# Altium schematic symbol library SCH - IC-MCU - ATTINY85V-10SU.SchLib: 1 symbol
Pins are listed as number, name and electrical type; pins without a type are passive.

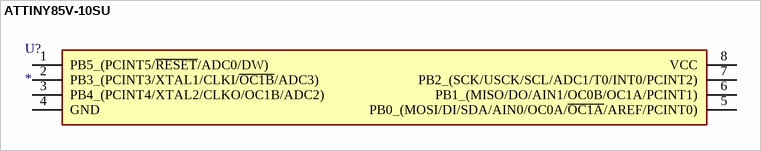
[diagram p0: symbol ATTINY85V-10SU]

## ATTINY85V-10SU
designator U?
Integrated Circuit; Manufacturer_Name: Microchip; Manufacturer_Part_Number: ATTINY85V-10SUR; Description: MICROCHIP - ATTINY85V-10SUR - MCU; Datasheet Link: http://ww1.microchip.com/downloads/en/devicedoc/atmel-2586-avr-8-bit-microcontroller-attiny25-attiny45-attiny85_datasheet-summary.pdf; Height: 2.16mm; Mouser Part Number: 556-ATTINY85V-10SUR; Mouser Price/Stock: https://www.mouser.co.uk/ProductDetail/Microchip-Technology-Atmel/ATTINY85V-10SUR?qs=6Dg1WZIWLC7RsRgydzBFFw%3D%3D; Arrow Part Number: ATTINY85V-10SUR; Arrow Price/Stock: https://www.arrow.com/en/products/attiny85v-10sur/microchip-technology?region=nac
footprint SOIC127P798X216-8N
pins: 1 PB5_(PCINT5/~{RESET}/ADC0/DW), 2 PB3_(PCINT3/XTAL1/CLKI/~{OC1B}/ADC3), 3 PB4_(PCINT4/XTAL2/CLKO/OC1B/ADC2), 4 GND, 5 PB0_(MOSI/DI/SDA/AIN0/OC0A/~{OC1A}/AREF/PCINT0), 6 PB1_(MISO/DO/AIN1/OC0B/OC1A/PCINT1), 7 PB2_(SCK/USCK/SCL/ADC1/T0/INT0/PCINT2), 8 VCC